# Altium schematic symbol library NFZ15SG151SN11D.SchLib: 1 symbol
Pins are listed as number, name and electrical type; pins without a type are passive.

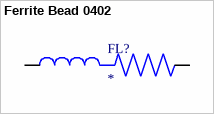
[diagram p0: symbol Ferrite Bead 0402]

## Ferrite Bead 0402
designator FL?
Ferrite Bead 0402; MF: Murata; MP: NFZ15SG151SN11D; SnapEDA_Link: https://www.snapeda.com/parts/NFZ15SG151SN11D/Murata/view-part/?ref=snap; Package: 1005 Taiyo Yuden; Value: *; Check_prices: https://www.snapeda.com/parts/NFZ15SG151SN11D/Murata/view-part/?ref=eda
footprint BEADC1005X55N
pins: 1, 2